# EAGLE library part ESP32LOLIN32_JST (library UNIT_Biblioteca_Modulos)
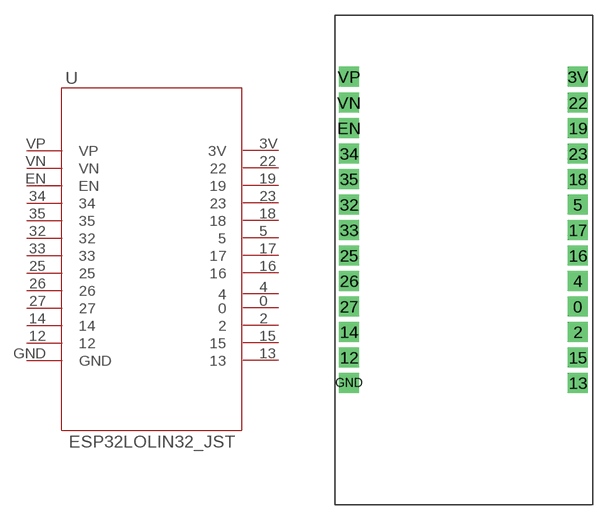
[diagram p5: symbol with the pads of ESP32LOLIN32; footprint ESP32LOLIN32]

Designator prefix -

## ESP32LOLIN32_JST  [ESP32LOLIN32]
0  0
2  2
3V  3V
4  4
5  5
12  12
13  13
14  14
15  15
16  16
17  17
18  18
19  19
22  22
23  23
25  25
26  26
27  27
32  32
33  33
34  34
35  35
EN  EN
GND  GND
VN  VN
VP  VP

## Footprint ESP32LOLIN32 (pad centres in mm)
drill 0.6 pad 2 square: 0 24.337,19.809; 2 24.337,17.269; 3V 24.337,42.809; 4 24.337,22.369; 5 24.337,30.009; 12 1.433,14.714; 13 24.337,12.169; 14 1.433,17.274; 15 24.337,14.709; 16 24.337,24.909; 17 24.337,27.469; 18 24.337,32.569; 19 24.337,37.669; 22 24.337,40.209; 23 24.337,35.109; 25 1.433,24.914; 26 1.433,22.374; 27 1.433,19.814; 32 1.433,30.014; 33 1.433,27.474; 34 1.433,35.114; 35 1.433,32.574; EN 1.433,37.674; GND 1.433,12.174; VN 1.433,40.214; VP 1.433,42.814